# Altium footprint library Analog.PcbLib: 25 footprints (part 2 of 2)
Each footprint in its own frame and in the unit in brackets; x right, y up, seen from the top. Pads: shape width x height; smd on the part's side, far side on the other; paste and mask are expansions set on the pad; w line width, h text height; cw(c..) or ccw(c..) is an arc to the next point about the centre after c.
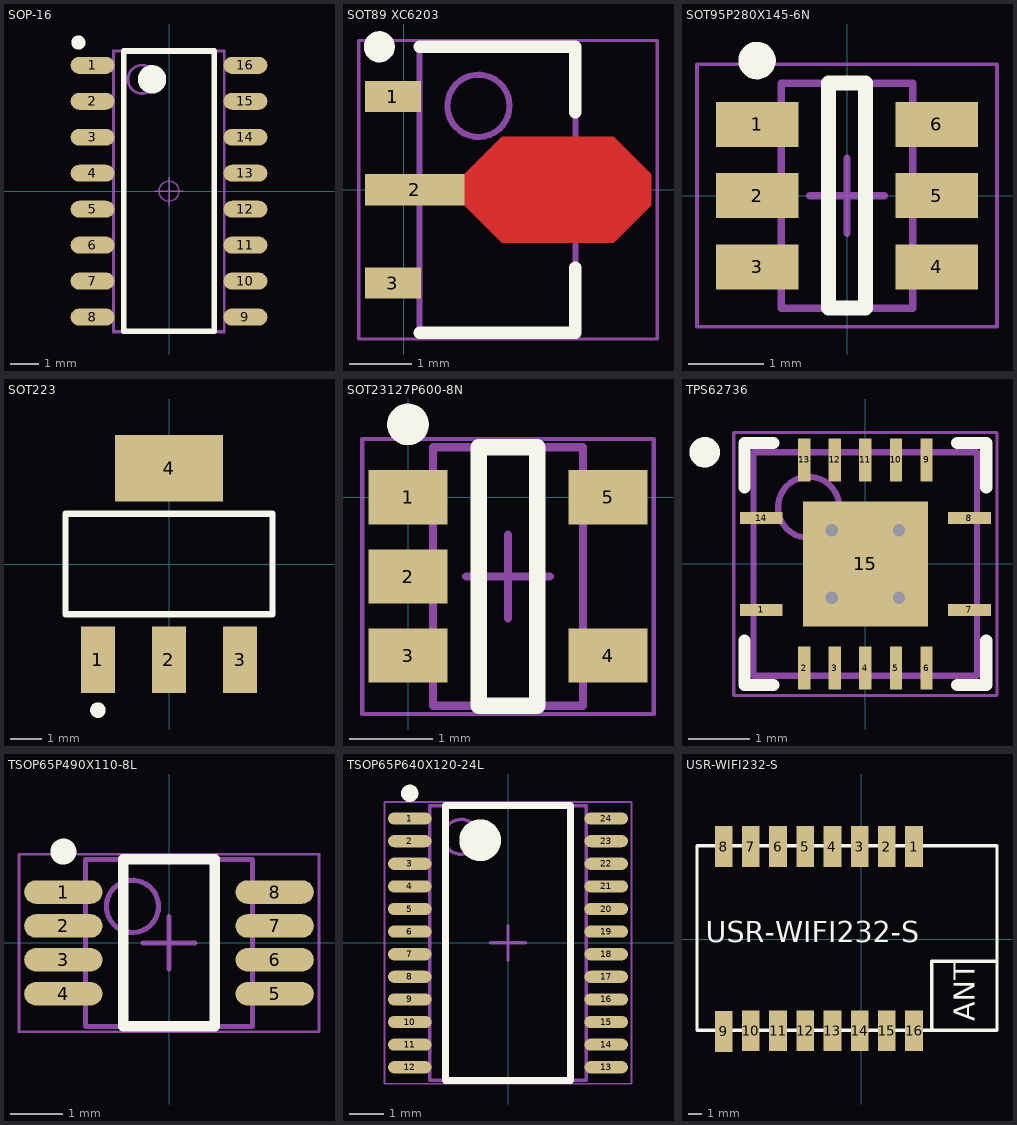
[diagram p1: the footprints below, top view; thin cyan lines are the x and y axes]

## SOP-16 [mm]
pads (16):
  oval 1.55x0.6 smd: 1(-2.7,4.445) 2(-2.7,3.175) 3(-2.7,1.905) 4(-2.7,0.635) 5(-2.7,-0.635) 6(-2.7,-1.905) 7(-2.7,-3.175) 8(-2.7,-4.445) 9(2.7,-4.445) 10(2.7,-3.175) 11(2.7,-1.905) 12(2.7,-0.635) 13(2.7,0.635) 14(2.7,1.905) 15(2.7,3.175) 16(2.7,4.445)
Top Overlay:
  circle w0.5: c-0.6,3.95 r0.25
  circle w0.25: c-3.2,5.25 r0.125
  lines w0.2: -1.6,-4.95 1.6,-4.95 1.6,4.95 -1.6,4.95 -1.6,-4.95
Mechanical 15:
  circle w0.1: c-0.95,3.95 r0.5
  lines w0.1: -1.95,-4.95 1.95,-4.95 1.95,4.95 -1.95,4.95 -1.95,-4.95
  text "1" at 0.45,-0.164 h0.75
Mechanical 16:
  circle w0.05: c0,0 r0.35
  lines w0.001: -1.995,-5 1.995,-5 1.995,5 -1.995,5 -1.995,-5
  lines w0.05: -0.5,0 0.5,0 ; 0,-0.5 0,0.5
3D body: height 1, standoff 0.1, extent -1.905,-4.953 1.905,4.953

## SOT89 XC6203 [mm]
pads (3):
  rect 0.9x0.5 smd: 1(-0.175,1.5) 3(-0.175,-1.5)
  rect 1.6x0.5 smd: 2(0.175,0)
Top Layer:
  region: 0.975,0.25 1.575,0.85 3.375,0.85 3.975,0.25 3.975,-0.25 3.375,-0.85 1.575,-0.85 0.975,-0.25
Top Overlay:
  circle w0.25: c-0.395,2.3 r0.125
  lines w0.2: 0.255,-2.3 2.755,-2.3 2.755,-1.25 ; 0.255,2.3 2.755,2.3 2.755,1.25
Mechanical 13:
  circle w0.1: c1.2,1.35 r0.5
  lines w0.1: 0.25,-2.3 2.76,-2.3 2.76,2.3 0.25,2.3 0.25,-2.3
Mechanical 15:
  lines w0.05: -0.725,-2.4 4.075,-2.4 4.075,2.4 -0.725,2.4 -0.725,-2.4
  lines w0.1: 1.005,0 2.005,0 ; 1.505,-0.5 1.505,0.5
3D body: height 1.6, standoff 0, extent 0.25,-2.3 2.76,2.3

## SOT95P280X145-6N [mm]
pads (6):
  rect 1.1x0.6 smd: 1(-1.2,0.95) 2(-1.2,0) 3(-1.2,-0.95) 4(1.2,-0.95) 5(1.2,0) 6(1.2,0.95)
Top Overlay:
  circle w0.25: c-1.2,1.8 r0.125
  lines w0.2: -0.25,-1.5 0.25,-1.5 0.25,1.5 -0.25,1.5 -0.25,-1.5
Mechanical 13:
  lines w0.1: -0.875,-1.5 -0.875,1.5 0.875,1.5 0.875,-1.5 -0.875,-1.5
Mechanical 15:
  lines w0.05: -2,-1.75 -2,1.75 2,1.75 2,-1.75 -2,-1.75
  lines w0.1: -0.5,0 0.5,0 ; 0,-0.5 0,0.5
3D body: height 1.45, standoff 0.15, extent -0.875,-1.5 0.875,1.5

## SOT223 [mm]
pads (4):
  rect 1.1x2.15 smd: 1(-2.3,-3.1) 2(0,-3.1) 3(2.3,-3.1)
  rect 3.5x2.15 smd: 4(0,3.1)
Top Overlay:
  circle w0.25: c-2.3,-4.725 r0.125
  lines w0.2: -3.35,-1.625 -3.35,1.625 3.35,1.625 3.35,-1.625 -3.35,-1.625
3D body: height 1.7, standoff 0.1, extent -3.3,-1.6 3.3,1.6
3D body: height 0.3, standoff 0, extent -2.6,-3.2 -2,-1.6
3D body: height 0.3, standoff 0, extent -1.7,1.6 1.7,3.1
3D body: height 0.3, standoff 0, extent -0.3,-3.2 0.3,-1.6
3D body: height 0.3, standoff 0, extent 2,-3.2 2.6,-1.6

## SOT23127P600-8N [mm]
height 0.7
pads (5):
  rect 0.95x0.65 smd: 1(0,0) 2(0,-0.95) 3(0,-1.9) 4(2.4,-1.9) 5(2.4,0)
Top Overlay:
  circle w0.25: c0,0.875 r0.125
  lines w0.2: 0.85,-2.5 1.55,-2.5 1.55,0.6 0.85,0.6 0.85,-2.5
Mechanical 13:
  lines w0.1: 0.3,-2.5 0.3,0.6 2.1,0.6 2.1,-2.5 0.3,-2.5
Mechanical 15:
  lines w0.05: -0.55,-2.6 -0.55,0.7 2.95,0.7 2.95,-2.6 -0.55,-2.6
  lines w0.1: 0.7,-0.95 1.7,-0.95 ; 1.2,-1.45 1.2,-0.45
3D body: height 0.7, standoff 0.1, extent 0.3,-2.5 2.1,0.6

## TPS62736 [mm]
height 1
pads (15):
  rect 0.7x0.2 smd: 1(-1.7,-0.75) 7(1.7,-0.75) 8(1.7,0.75) 14(-1.7,0.75)
  rect 0.2x0.7 smd: 2(-1,-1.7) 3(-0.5,-1.7) 4(0,-1.7) 5(0.5,-1.7) 6(1,-1.7) 9(1,1.7) 10(0.5,1.7) 11(0,1.7) 12(-0.5,1.7) 13(-1,1.7)
  rect 2.04x2.04 smd: 15(0,0)
via -0.55,0.55 diameter 0.5 hole 0.2
via 0.55,0.55 diameter 0.5 hole 0.2
via -0.55,-0.55 diameter 0.5 hole 0.2
via 0.55,-0.55 diameter 0.5 hole 0.2
Top Overlay:
  circle w0.25: c-2.625,1.825 r0.125
  lines w0.2: -1.975,-1.25 -1.975,-1.975 -1.5,-1.975 ; -1.975,1.25 -1.975,1.975 -1.5,1.975 ; 1.5,-1.975 1.975,-1.975 1.975,-1.25 ; 1.5,1.975 1.975,1.975 1.975,1.25
Mechanical 13:
  circle w0.1: c-0.925,0.925 r0.5
  lines w0.1: -1.825,-1.825 -1.825,1.825 1.825,1.825 1.825,-1.825 -1.825,-1.825
Mechanical 15:
  lines w0.05: -2.15,-2.15 -2.15,2.15 2.15,2.15 2.15,-2.15 -2.15,-2.15
  lines w0.1: -0.5,0 0.5,0 ; 0,-0.5 0,0.5
3D body: height 1, standoff 0.08, extent -1.825,-1.825 1.825,1.825

## TSOP65P490X110-8L [mm] "TSOP, 8-Leads, Body 3.00x3.00mm, Pitch 0.65mm, IPC High Density"
height 1.1
pads (8):
  oval 1.5x0.45 smd: 1(-2.025,0.975) 2(-2.025,0.325) 3(-2.025,-0.325) 4(-2.025,-0.975) 5(2.025,-0.975) 6(2.025,-0.325) 7(2.025,0.325) 8(2.025,0.975)
Top Overlay:
  circle w0.25: c-2.025,1.75 r0.125
  lines w0.2: -0.875,-1.6 -0.875,1.6 0.875,1.6 0.875,-1.6 -0.875,-1.6
Mechanical 13:
  circle w0.1: c-0.7,0.7 r0.5
  lines w0.1: -1.6,-1.6 -1.6,1.6 1.6,1.6 1.6,-1.6 -1.6,-1.6
Mechanical 15:
  lines w0.05: -2.875,-1.7 -2.875,1.7 2.875,1.7 2.875,-1.7 -2.875,-1.7
  lines w0.1: -0.5,0 0.5,0 ; 0,-0.5 0,0.5
3D body: height 1.1, standoff 0.23, extent -1.6,-1.6 1.6,1.6

## TSOP65P640X120-24L [mm] "TSOP, 24-Leads, Body 7.80x4.40mm, Pitch 0.65mm, IPC High Density"
height 1.2
pads (24):
  oval 1.25x0.35 smd: 1(-2.825,3.575) 2(-2.825,2.925) 3(-2.825,2.275) 4(-2.825,1.625) 5(-2.825,0.975) 6(-2.825,0.325) 7(-2.825,-0.325) 8(-2.825,-0.975) 9(-2.825,-1.625) 10(-2.825,-2.275) 11(-2.825,-2.925) 12(-2.825,-3.575) 13(2.825,-3.575) 14(2.825,-2.925) 15(2.825,-2.275) 16(2.825,-1.625) 17(2.825,-0.975) 18(2.825,-0.325) 19(2.825,0.325) 20(2.825,0.975) 21(2.825,1.625) 22(2.825,2.275) 23(2.825,2.925) 24(2.825,3.575)
Top Overlay:
  circle w0.6: c-0.8,2.95 r0.3
  circle w0.25: c-2.825,4.3 r0.125
  lines w0.2: -1.8,-3.95 1.8,-3.95 1.8,3.95 -1.8,3.95 -1.8,-3.95
Mechanical 13:
  circle w0.1: c-1.35,3.05 r0.5
  lines w0.1: -2.25,-3.95 2.25,-3.95 2.25,3.95 -2.25,3.95 -2.25,-3.95
Mechanical 15:
  lines w0.05: -3.55,-4.05 3.55,-4.05 3.55,4.05 -3.55,4.05 -3.55,-4.05
  lines w0.1: -0.5,0 0.5,0 ; 0,-0.5 0,0.5
3D body: height 1.2, standoff 0.15, extent -2.25,-3.95 2.25,3.95

## USR-WIFI232-S [mm]
pads (16):
  rect 1.3x3 smd: 1(3.886,6.794) 2(1.887,6.794) 3(-0.112,6.794) 4(-2.112,6.794) 5(-4.111,6.794) 6(-6.111,6.794) 7(-8.11,6.794) 8(-10.109,6.794) 9(-10.109,-6.794) 10(-8.11,-6.744) 11(-6.111,-6.744) 12(-4.111,-6.744) 13(-2.112,-6.744) 14(-0.112,-6.744) 15(1.887,-6.744) 16(3.886,-6.744)
Top Overlay:
  lines w0.254: 5.182,-6.591 5.182,-1.638 9.931,-1.638 ; -12.065,-6.718 -12.065,6.845 9.982,6.845 9.982,-6.718 -12.065,-6.718
  text "ANT" at 8.331,-6.032 h1.52
  text "USR-WIFI232-S" at -11.43,-0.241 h1.52
3D body: height 3.4, standoff 0, extent -12.065,-6.731 10.033,6.858